# EAGLE library part 4DIG_7SEG (library 7-seg-disp)
This library is modified to the Adafruit 4dig7seg display, part# KW4-56NCBA-P. It doesn't have the up decimal, and the pins are reassigned. This is common cathode. This library was based on BL-Q39A42 respectively BL-Q39B42 display but support many others displays where PAD/PIN assign is same.Display may be common cathode or common anode because PAD/PIN assign is still the same. PIN DESCRIPTION: DIG1-DIG4 : common cathode or common anode of digit CO1-CO2: cathode or anode of colon (Depends on the display), DIG1-DIG4: common cathodes or anodes of digits, A - G+ DP: cathodes or anodes of segments A to F with dot point . Made by: www.developrog.com, modified by Kiki Jewell 2016
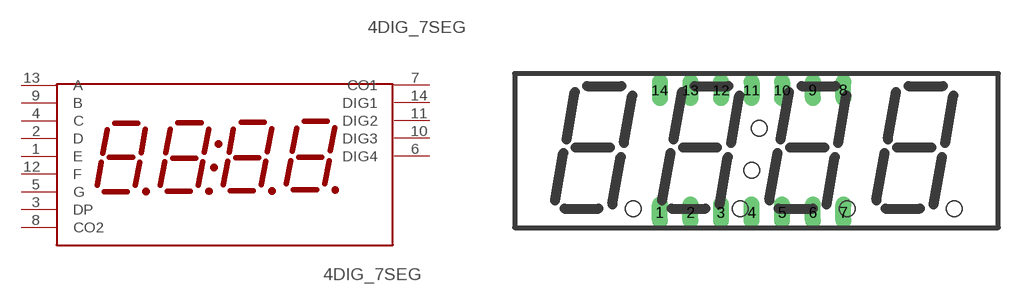
[diagram p0: symbol with the pads of 4DIG_7SEG; footprint 4DIG_7SEG]

Designator prefix 4DIG_7SEG

## 4DIG_7SEG  [4DIG_7SEG]
1  E
2  D
3  DP
4  C
5  G
6  DIG4
7  CO1
8  CO2
9  B
10  DIG3
11  DIG2
12  F
13  A
14  DIG1

## Footprint 4DIG_7SEG (pad centres in mm)
drill 0.8 long: 1 -7.62,-5.08; 2 -5.08,-5.08; 3 -2.54,-5.08; 4 0,-5.08; 5 2.54,-5.08; 6 5.08,-5.08; 7 7.62,-5.08; 8 7.62,5.08; 9 5.08,5.08; 10 2.54,5.08; 11 0,5.08; 12 -2.54,5.08; 13 -5.08,5.08; 14 -7.62,5.08